# Altium schematic symbol library SCH - MCU - NUVOTON - NUVOTON NDA102EC1.SchLib: 1 symbol
Pins are listed as number, name and electrical type; pins without a type are passive.

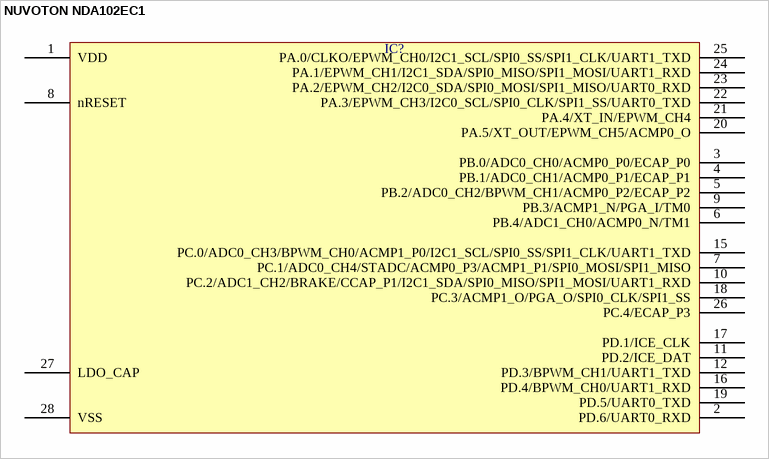
[diagram p0: symbol NUVOTON NDA102EC1]

## NUVOTON NDA102EC1
designator IC?  (value not drawn)
pins: 1 VDD, 2 PD.6/UART0_RXD, 3 PB.0/ADC0_CH0/ACMP0_P0/ECAP_P0, 4 PB.1/ADC0_CH1/ACMP0_P1/ECAP_P1, 5 PB.2/ADC0_CH2/BPWM_CH1/ACMP0_P2/ECAP_P2, 6 PB.4/ADC1_CH0/ACMP0_N/TM1, 7 PC.1/ADC0_CH4/STADC/ACMP0_P3/ACMP1_P1/SPI0_MOSI/SPI1_MISO, 8 nRESET, 9 PB.3/ACMP1_N/PGA_I/TM0, 10 PC.2/ADC1_CH2/BRAKE/CCAP_P1/I2C1_SDA/SPI0_MISO/SPI1_MOSI/UART1_RXD, 11 PD.2/ICE_DAT, 12 PD.3/BPWM_CH1/UART1_TXD, 15 PC.0/ADC0_CH3/BPWM_CH0/ACMP1_P0/I2C1_SCL/SPI0_SS/SPI1_CLK/UART1_TXD, 16 PD.4/BPWM_CH0/UART1_RXD, 17 PD.1/ICE_CLK, 18 PC.3/ACMP1_O/PGA_O/SPI0_CLK/SPI1_SS, 19 PD.5/UART0_TXD, 20 PA.5/XT_OUT/EPWM_CH5/ACMP0_O, 21 PA.4/XT_IN/EPWM_CH4, 22 PA.3/EPWM_CH3/I2C0_SCL/SPI0_CLK/SPI1_SS/UART0_TXD, 23 PA.2/EPWM_CH2/I2C0_SDA/SPI0_MOSI/SPI1_MISO/UART0_RXD, 24 PA.1/EPWM_CH1/I2C1_SDA/SPI0_MISO/SPI1_MOSI/UART1_RXD, 25 PA.0/CLKO/EPWM_CH0/I2C1_SCL/SPI0_SS/SPI1_CLK/UART1_TXD, 26 PC.4/ECAP_P3, 27 LDO_CAP, 28 VSS